# Altium schematic symbol library LM2674MX-12_NOPB.SchLib: 1 symbol
Pins are listed as number, name and electrical type; pins without a type are passive.

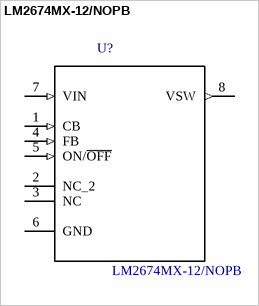
[diagram p0: symbol LM2674MX-12/NOPB]

## LM2674MX-12/NOPB
designator U?
SIMPLE SWITCHERÂ® 40V, 500mA Low Component Count Step-Down Regulator 8-SOIC -40 to 125; MF: Texas Instruments; MP: LM2674MX-12/NOPB; SnapEDA_Link: https://www.snapeda.com/parts/LM2674MX-12/NOPB/Texas%20Instruments/view-part/?ref=snap; Availability: Unavailable; Package: SOIC-8 Texas Instruments; Price: None; Value: *
footprint SOIC127P620X175-8N
pins: 1 CB (in), 2 NC_2, 3 NC, 4 FB (in), 5 ON/~{OFF} (in), 6 GND, 7 VIN (in), 8 VSW (out)